# Altium schematic symbol library Transistor.SchLib: 44 symbols
Pins are listed as number, name and electrical type; pins without a type are passive.

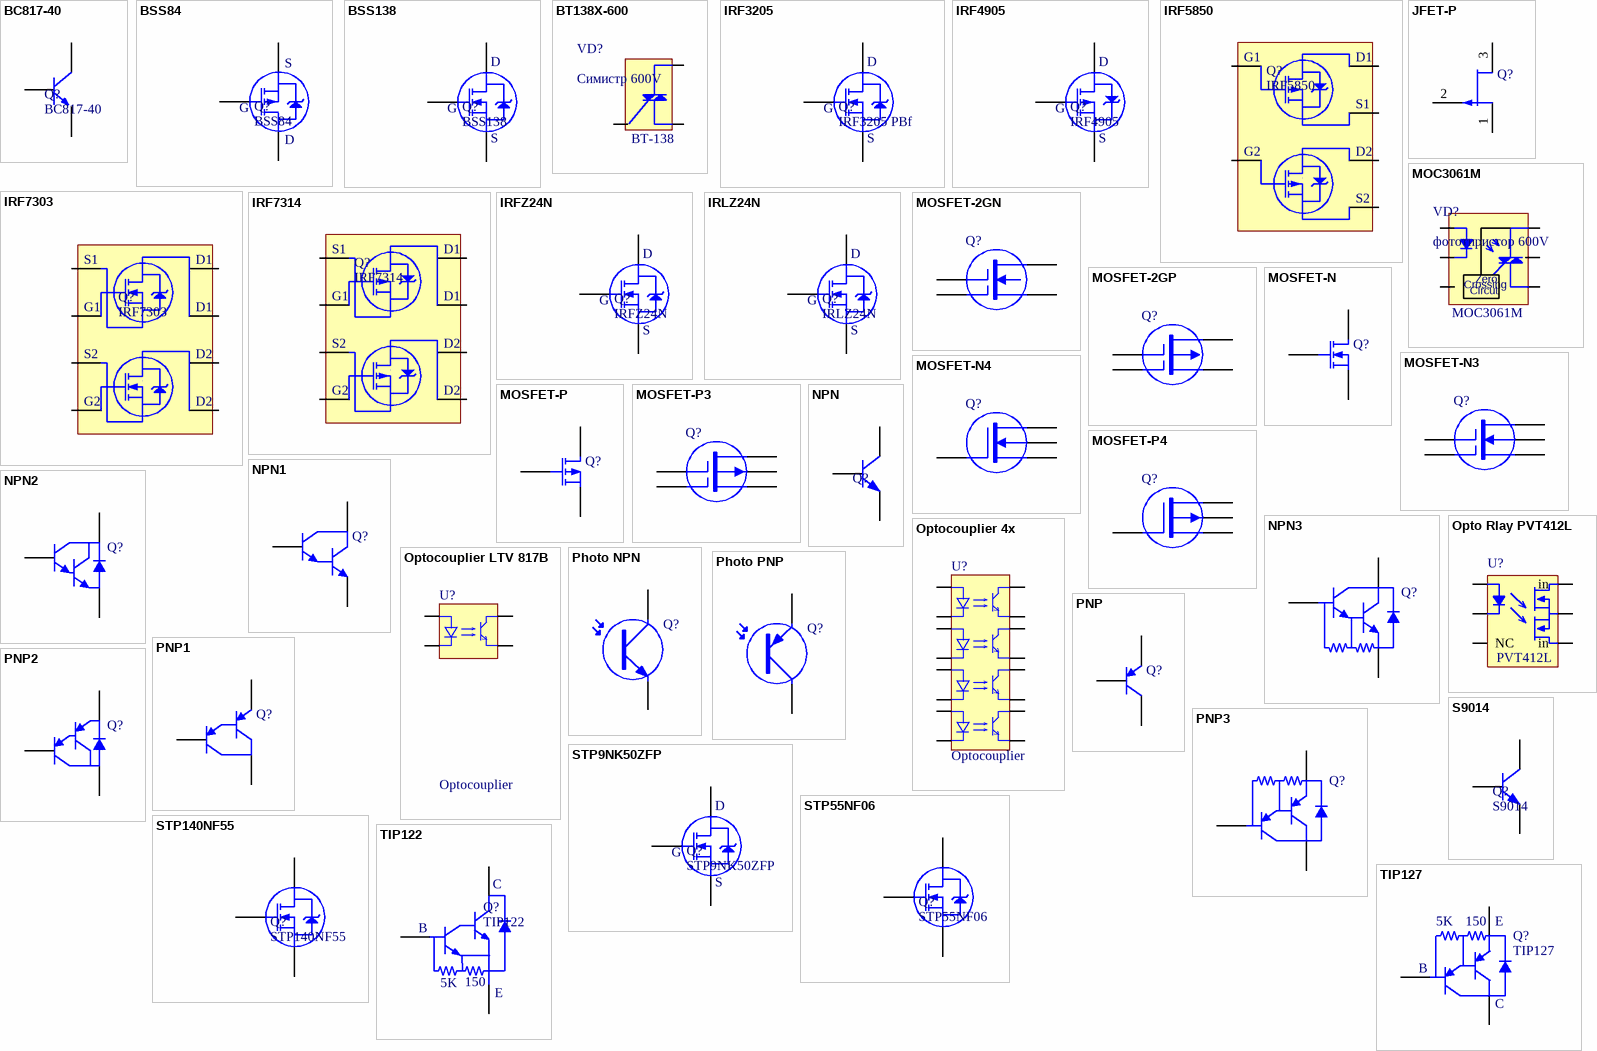
[diagram p0: symbols BC817-40 to TIP127]

## BC817-40
designator Q?
NPN 45 V, 500 mA NPN general-purpose transistor; type: 45 V, 500 mA NPN general-purpose transistors; Name: BC817-40; url: http://lib.chipdip.ru/156/DOC000156781.pdf
footprint SOT-23
pins: 1 B, 2 E, 3 C

## BSS84
designator Q?
P-Channel -50V - 10-1Ω - 0.13A; Monufacturer: Farchild; V DSS (v): 60; RDS: <10Om; Open Voltage: -0.8...-2.0 V; I d - Drain current (continuous) at TC = 25°C: 0.13 A; Name: BSS84; Datasheet: http://tec.org.ru/board/0-0-0-515-20
footprint SOT-23
pins: 1 G, 2 S, 3 D

## BSS138
designator Q?
N-Channel 50V - 0.7-1Ω - 0.22A; Monufacturer: Farchild; V DSS (v): 60; RDS: <6Om; I d - Drain current (continuous) at TC = 100°C: 50 A; I d - Drain current (continuous) at TC = 25°C: 0.22 A; Name: BSS138; Datasheet: http://tec.org.ru/board/0-0-0-511-20
footprint SOT-23
pins: 1 G, 2 S, 3 D

## BT138X-600
designator VD?, comment Симистр 600V
Симистр  600V; Name: MOC3061M; Desc: Включается на прееходе через ноль; I (max): 12 A; U (max): 600V (800V Peak); Cese: TO-220FP; Reverse Voltage: 6 V; I (peak): 95 A (20uS); Lead Solder Temp: 260 C for 10 sec; I Forward: 30 mA; Voltage (Gate): 1.4 Typ; 1.65 Max; Manifacturer: Philips Semiconductors; Время включения: 2ms; Отпирающий ток управления: <35mA; Ток удержания: 60mA; Datasheet: https://static.chipdip.ru/lib/021/DOC001021792.pdf; URL: https://www.chipdip.ru/product/bt138x-600.127; Pins: 1,2 Main Terminal; 3-Gate; URL: http://tec.org.ru/board/bt138x_600_bt138x_800/54-1-0-877; Datasheet: http://tec.org.ru/board/0-0-0-877-20
footprint TO220-2
footprint TO220-2 Horisontal
footprint TO220 L
footprint TO220 L - 20DG
footprint TO220 R - 30dg
footprint TO220 R - thin
footprint TO220 L (dbl pad space)
pins: 1 Main Terminal 2, 2 Main Terminal 1, 3 NC
text: BT-138

## IRF3205
designator Q?, comment IRF3205 PBf
N-Channel 55V - 0.008Ω - 110A; Monufacturer: IOR; RDS Сопротивление Сток-Исток: 0.008 Om; I d - Drain current (continuous) at TC = 100°C: 80 A; VGS Порог Открытия: +2....+4 V; VGS Макс напр на гейте: +-20 V; C ISS Входная емкость: 3247 pF; C OSS Выходная емкость: 781 pF; V DSS (v): 55V; I d - Drain current (continuous) at TC = 25°C: 110 A; Name: IRF3205 PBf; Datasheet: http://tec.org.ru/_bd/2/223_IRF3205.pdf; URL: http://tec.org.ru/board/49-1-0-223
footprint TO220-2
footprint TO220-2 Horisontal
footprint TO220-2 HighPower
pins: 1 G, 2 D, 3 S

## IRF4905
designator Q?
P-Channel 55V - 0.02Ω - 74A; Monufacturer: IOR; RDS Сопротивление Сток-Исток: 0.02 Om; I d - Drain current (continuous) at TC = 100°C: 55 A; VGS Порог Открытия: -2....-4 V; VGS Макс напр на гейте: +-20 V; C ISS Входная емкость: 3400 pF; C OSS Выходная емкость: 1400 pF; V DSS (v): 55V; I d - Drain current (continuous) at TC = 25°C: 74 A; Name: IRF4905; Datasheet: http://tec.org.ru/_bd/32/3287_IRF4905.pdf; URL: http://tec.org.ru/board/irf4905/49-1-0-3287
footprint TO220-2
footprint TO220-2 Horisontal
pins: 1 G, 2 D, 3 S

## IRF5850
designator Q?
Dual P-Ch  20V - 0.135Ω - 2.2A; Monufacturer: IOR; V DSS (v): -20 V; RDS Сопротивление Сток-Исток: 0.135 Om; I d - Drain current (continuous) at TC = 70°C: 1.8 A; VGS Порог Открытия: -0.45...-1.2 V; VGS Макс напр на гейте: +-12 V; C ISS Входная емкость: 320 pF; C OSS Выходная емкость: 56 pF; I d - Drain current (continuous) at TC = 25°C: 2.2 A; Name: IRF5850; Datasheet: http://tec.org.ru/_bd/4/490_IRF5850.pdf; URL: http://tec.org.ru/board/irf5850/49-1-0-490
footprint TSOP-6
footprint TSOP-6 (M)
footprint TSOP-6 (S)
pins: 1 G1, 2 S2, 3 G2, 4 D2, 5 S1, 6 D1

## IRF7303
designator Q?
Dual N-Ch  30V - 0.05Ω - 4.9A; Manufacturer: Farchild; RDS: <0.05Om; I d - Drain current (continuous) at TC = 70°C: 3.9 A; C In: 520pF; C Out: 180pF; V DSS (v): 30 v; I d - Drain current (continuous) at TC = 25°C: 4.9 A; Name: IRF7303; Datasheet: http://tec.org.ru/board/0-0-0-3164-20
footprint SO8
pins: 1 S, 2 G, 3 S, 4 G, 5 D, 6 D, 7 D, 8 D
text: S1; D1; G1; S2; D2; G2

## IRF7314
designator Q?
Dual P-Ch  20V - 0.058Ω - 5.3A; Monufacturer: IOR; RDS Сопротивление Сток-Исток: 0.058 Om; I d - Drain current (continuous) at TC = 100°C: 4.3 A; VGS Порог Открытия: -0.7 V; VGS Макс напр на гейте: +-12 V; C ISS Входная емкость: 780 pF; C OSS Выходная емкость: 470 pF; V DSS (v): 20V; I d - Drain current (continuous) at TC = 25°C: 5.3 A; Name: IRF7314; Datasheet: http://tec.org.ru/_bd/2/277_IRF7314-IR.pdf; URL: http://tec.org.ru/board/49-1-0-277
footprint SO8
pins: 1 S, 2 G, 3 S, 4 G, 5 D, 6 D, 7 D, 8 D
text: S1; D1; G1; S2; D2; G2

## IRFZ24N
designator Q?
N-Channel 55V - 0.07Ω - 17A; Monufacturer: IOR; RDS Сопротивление Сток-Исток: 0.07 Om; I d - Drain current (continuous) at TC = 100°C: 12 A; VGS Порог Открытия: +2....+4 V; VGS Макс напр на гейте: +-20 V; C ISS Входная емкость: 370 pF; C OSS Выходная емкость: 140 pF; V DSS (v): 55V; I d - Drain current (continuous) at TC = 25°C: 17 A; Name: IRFZ24N; Datasheet: http://tec.org.ru/_bd/11/1130_IRFZ24N.pdf; URL: http://tec.org.ru/board/irfz24n/49-1-0-1130
footprint TO220-2
footprint TO220-2 Horisontal
pins: 1 G, 2 D, 3 S

## IRLZ24N
designator Q?
N-Channel 55V - 0.06Ω - 18A; Monufacturer: IOR; RDS Сопротивление Сток-Исток: 0.06 Om; I d - Drain current (continuous) at TC = 100°C: 13 A; VGS Порог Открытия: +1....+2 V; VGS Макс напр на гейте: +-16 V; C ISS Входная емкость: 480 pF; C OSS Выходная емкость: 130 pF; V DSS (v): 55V; I d - Drain current (continuous) at TC = 25°C: 18 A; Name: IRLZ24N; Datasheet: http://tec.org.ru/_bd/11/1129_IRLZ24N.pdf; URL: http://tec.org.ru/board/irlz24n/49-1-0-1129
footprint TO220-2
footprint TO220-2 Horisontal
pins: 1 G, 2 D, 3 S

## JFET-P
designator Q?
P-Channel JFET; Published: 8-Jun-2000; LatestRevisionDate: 17-Jul-2002; LatestRevisionNote: Re-released for DXP Platform.; PackageReference: TO-18A; Publisher: Altium Limited; PackageDescription: SC-89; 3 Flat Leads; Body 1.6 x 1.6 x 0.7 mm, inc leads (LxWxH typ)
pins: 1 D, 2 G, 3 S

## MOC3061M
designator VD?, comment фототиристор 600V
фототиристор 600V, вкл на передеже через ноль; Name: MOC3061M; Desc: Включается на прееходе через ноль; I (max): 60mA; Cese: DIP-6; Reverse Voltage: 6 V; I (peak): 1 A (100uS, 120pps); Lead Solder Temp: 260 C for 10 sec; I Forward: 30 mA; Voltage: 1.3 Typ; 1.5 Max; Led IF (mA) Ток светодиода: 15mA (3061); 10mA (3062); 5mA (3063); Datasheet: https://static.chipdip.ru/lib/224/DOC000224628.pdf; URL: https://www.chipdip.ru/product/moc3061m; Pins: 1-Anode; 2-Cathode; 3,5-NC; 4,6-MAN Term; U (max): 600V
footprint DIP-6 (DIP; 6 Leads; Row Spacing 7.62 mm; Pitch 2.54 mm)
pins: 1, 2, 3 NC, 4 Main Term, 5 NC, 6 Main Term
text: Zero; Crossing; Circut

## MOSFET-2GN
designator Q?
Two-Gate, N-Channel MOSFET; Published: 24-Mar-1999; LatestRevisionDate: 17-Jul-2002; LatestRevisionNote: Re-released for DXP Platform.; PackageReference: T05A; Publisher: Altium Limited; PackageDescription: TO-220, Molded, 5 Lead, Straight; Code_JEDEC: TS-001-AA
pins: 1 G1, 2 G2, 3 D, 4 S

## MOSFET-2GP
designator Q?
Two-Gate, P-Channel MOSFET; Published: 24-Mar-1999; LatestRevisionDate: 29-May-2009; LatestRevisionNote: IPC-7351 Footprint Added.; PackageVersion: Sep-2000; PackageReference: SOT-143; Publisher: Altium Limited; PackageDescription: 4-Pin SOT-143 Package 1.9 mm Pitch, 2.5 mm Lead Span; Code_JEDEC: TO-253-AA; Code_IPC: SOT143
pins: 1 G1, 2 G2, 3 D, 4 S

## MOSFET-N
designator Q?
N-Channel MOSFET; Published: 8-Jun-2000; LatestRevisionDate: 17-Jul-2002; LatestRevisionNote: Re-released for DXP Platform.; PackageVersion: 1995/1996; PackageReference: E3; Publisher: Altium Limited; PackageDescription: TO, Flat Index; 3 In-Line, Axial Leads; Body Dia. 4.6mm; Lead Dia. 0.5 mm (max)
pins: 1 D, 2 G, 3 S

## MOSFET-N3
designator Q?
Two-Gate, N-Channel MOSFET, Externally Terminated Substrate; Published: 24-Mar-1999; LatestRevisionDate: 17-Jul-2002; LatestRevisionNote: Re-released for DXP Platform.; PackageReference: T05A; Publisher: Altium Limited; PackageDescription: TO-220, Molded, 5 Lead, Straight; Code_JEDEC: TS-001-AA
pins: 1 G1, 2 G2, 3 D, 4 U, 5 S

## MOSFET-N4
designator Q?
N-Channel MOSFET, Externally Terminated Substrate; Published: 24-Mar-1999; LatestRevisionDate: 29-May-2009; LatestRevisionNote: IPC-7351 Footprint Added.; PackageVersion: Sep-2000; PackageReference: SOT-343; Publisher: Altium Limited; PackageDescription: 4-Pin SOT-343 Package 1.3 mm Pitch, 2.1 mm Lead Span
pins: 1 G, 2 D, 3 U, 4 S

## MOSFET-P
designator Q?
P-Channel MOSFET; Published: 8-Jun-2000; LatestRevisionDate: 17-Jul-2002; LatestRevisionNote: Re-released for DXP Platform.; PackageVersion: 1995/1996; PackageReference: E3; Publisher: Altium Limited; PackageDescription: TO, Flat Index; 3 In-Line, Axial Leads; Body Dia. 4.6mm; Lead Dia. 0.5 mm (max)
pins: 1 D, 2 G, 3 S

## MOSFET-P3
designator Q?
Two-Gate, P-Channel MOSFET, Externally Terminated Substrate; Published: 24-Mar-1999; LatestRevisionDate: 17-Jul-2002; LatestRevisionNote: Re-released for DXP Platform.; PackageReference: T05B; Publisher: Altium Limited; PackageDescription: TO, Thru-Hole, Vertical, Heatsink Mounted; 5 Bent Staggered Leads; Pitch 1.7 mm
pins: 1 G1, 2 G2, 3 D, 4 U, 5 S

## MOSFET-P4
designator Q?
P-Channel MOSFET, Externally Terminated Substrate; Published: 24-Mar-1999; LatestRevisionDate: 29-May-2009; LatestRevisionNote: IPC-7351 Footprint Added.; PackageVersion: 2002; PackageReference: SOT223; Publisher: Altium Limited; PackageDescription: 4-Pin SOT-223 Package 2.3 mm Pitch, 7 mm Lead Span; Code_JEITA: SC-75; Code_JEDEC: TO-261-AA-B; Code_IPC: SOT223-4
pins: 1 G, 2 D, 3 U, 4 S

## NPN
designator Q?
NPN Bipolar Transistor; Published: 8-Jun-2000; LatestRevisionDate: 17-Jul-2002; LatestRevisionNote: Re-released for DXP Platform.; PackageReference: TO-226-AA; Publisher: Altium Limited; PackageDescription: TO, Flat Index; 3 In-Line, Axial Leads; Body Dia. 4.8mm; Leads 0.55 x 0.51 mm (max); Code_JEDEC: TO-226-AA
footprint TO-92 (EBC) (TO, Flat Index; 3 In-Line, Axial Leads; Body Dia. 4.5mm; Leads 0.51 x 0.48 mm (max))
footprint TO-92 Triangle (EBC) (TO, Flat Index; 3 In-Line, Axial Leads; Body Dia. 4.5mm; Leads 0.51 x 0.48 mm (max))
footprint TO-92 2.54 (EBC) (TO, Flat Index; 3 In-Line, Axial Leads; Body Dia. 4.5mm; Leads 0.51 x 0.48 mm (max))
pins: B, C, E

## NPN1
designator Q?
NPN Darlington Bipolar Transistor; Published: 8-Jun-2000; LatestRevisionDate: 17-Jul-2002; LatestRevisionNote: Re-released for DXP Platform.; DatasheetVersion: 1989; PackageVersion: 1989; PackageReference: TO-92; Publisher: Altium Limited; PackageDescription: TO, Flat Index; 3 In-Line, Axial Leads; Body Dia. 4.6mm; Leads 0.41 x 0.39 mm (max); Code_JEDEC: TO-92
pins: 1 C, 2 B, 3 E

## NPN2
designator Q?
NPN Darlington Bipolar Transistor; Published: 8-Jun-2000; LatestRevisionDate: 17-Jul-2002; LatestRevisionNote: Re-released for DXP Platform.; PackageReference: TO-226-AE; Publisher: Altium Limited; PackageDescription: TO, Flat Index; 3 In-Line, Axial Leads; Body Dia. 4.8mm; Leads 0.55 x 0.51 mm (max); Code_JEDEC: TO-226-AE
pins: 1 C, 2 B, 3 E

## NPN3
designator Q?
NPN Darlington Bipolar Transistor; Published: 8-Jun-2000; LatestRevisionDate: 17-Jul-2002; LatestRevisionNote: Re-released for DXP Platform.; PackageReference: TO-237-AA; Publisher: Altium Limited; PackageDescription: TO, Flat Index; 3 In-Line, Axial Leads; Body Dia. 4.8mm; Lead Dia. 0.56 mm (max); Code_JEDEC: TO-237-AA
pins: 1 C, 2 B, 3 E

## Opto Rlay PVT412L
designator U?, comment PVT412L  (value not drawn)
Opto relay 2 chanel, MOSFET; Datasheet: http://tec.org.ru/board/0-0-0-1979-20; Name: PVT412L; URL: http://tec.org.ru/board/pvt412l/147-1-0-1979
footprint DIP-6 (DIP; 6 Leads; Row Spacing 7.62 mm; Pitch 2.54 mm)
pins: 1, 2, 3 NC, 4 in, 5, 6 in

## Optocouplier 4x
designator U?, comment Optocouplier
4x channel; LTV847 Datasheet: http://lib.chipdip.ru/224/DOC000224974.pdf
3D model DIP16 (PCB3D Model)
footprint DIP16 (DIP; 16 Leads; Row Spacing 7.62 mm; Pitch 2.54 mm)
pins: 1, 2, 3, 4, 5, 6, 7, 8, 9, 10, 11, 12, 13, 14, 15, 16

## Optocouplier LTV 817B
designator U?, comment Optocouplier
Name: LTV817B; LTV817 Datasheet: http://lib.chipdip.ru/222/DOC000222300.pdf
footprint DIP-4
footprint DIP-4 SMD
pins: 1, 2, 3, 4

## Photo NPN
designator Q?
NPN Phototransistor; Published: 24-Mar-1999; LatestRevisionDate: 17-Jul-2002; LatestRevisionNote: Re-released for DXP Platform.; PackageReference: TO-220_A; Publisher: Altium Limited; Code_JEDEC: TO-220-AC
pins: 1 C, 3 E

## Photo PNP
designator Q?
PNP Phototransistor; Published: 24-Mar-1999; LatestRevisionDate: 17-Jul-2002; LatestRevisionNote: Re-released for DXP Platform.; PackageReference: TO-220_A; Publisher: Altium Limited; Code_JEDEC: TO-220-AC
pins: 1 C, 3 E

## PNP
designator Q?
PNP Bipolar Transistor; Published: 8-Jun-2000; LatestRevisionDate: 29-May-2009; LatestRevisionNote: IPC-7351 Footprint Added.; PackageVersion: Aug-1999; PackageReference: SOT-23B; Publisher: Altium Limited; PackageDescription: 3-Pin SOT-23 Package 0.95 mm Pitch, 2.4 mm Lead Span
pins: 1 C, 2 B, 3 E

## PNP1
designator Q?
PNP Darlington Bipolar Transistor; Published: 8-Jun-2000; LatestRevisionDate: 17-Jul-2002; LatestRevisionNote: Re-released for DXP Platform.; DatasheetVersion: May-1994; PackageVersion: 1995/1996; PackageReference: E3; Publisher: Altium Limited; PackageDescription: TO, Flat Index; 3 In-Line, Axial Leads; Body Dia. 4.6mm; Lead Dia. 0.5 mm (max); ComponentLink1Description: Manufacturer Link; ComponentLink1URL: http://www.zetex.com/
pins: 1 E, 2 B, 3 C

## PNP2
designator Q?
PNP Darlington Bipolar Transistor; Published: 8-Jun-2000; LatestRevisionDate: 17-Jul-2002; LatestRevisionNote: Re-released for DXP Platform.; PackageReference: TO-226-AE; Publisher: Altium Limited; PackageDescription: TO, Flat Index; 3 In-Line, Axial Leads; Body Dia. 4.8mm; Leads 0.55 x 0.51 mm (max); Code_JEDEC: TO-226-AA
pins: 1 C, 2 B, 3 E

## PNP3
designator Q?
PNP Darlington Bipolar Transistor; Published: 8-Jun-2000; LatestRevisionDate: 17-Jul-2002; LatestRevisionNote: Re-released for DXP Platform.; PackageReference: TO-226-AE; Publisher: Altium Limited; PackageDescription: TO, Flat Index; 3 In-Line, Axial Leads; Body Dia. 4.8mm; Leads 0.55 x 0.51 mm (max); Code_JEDEC: TO-226-AE
pins: 1 C, 2 B, 3 E

## S9014
designator Q?
NPN Bipolar Transistor; Published: 8-Jun-2000; LatestRevisionNote: Re-released for DXP Platform.; PackageReference: TO-226-AA; Publisher: Altium Limited; PackageDescription: TO, Flat Index; 3 In-Line, Axial Leads; Body Dia. 4.8mm; Leads 0.55 x 0.51 mm (max)
footprint TO-92 (EBC) (TO, Flat Index; 3 In-Line, Axial Leads; Body Dia. 4.5mm; Leads 0.51 x 0.48 mm (max))
footprint TO-92 Triangle (EBC) (TO, Flat Index; 3 In-Line, Axial Leads; Body Dia. 4.5mm; Leads 0.51 x 0.48 mm (max))
footprint TO-92 2.54 (EBC) (TO, Flat Index; 3 In-Line, Axial Leads; Body Dia. 4.5mm; Leads 0.51 x 0.48 mm (max))
pins: B, C, E

## STP9NK50ZFP
designator Q?
N-Channel 400V - 0.85Ω - 7.2A; Manufacturer: ST; RDS Сопротивление Сток-Исток: <0,85 om; I d - Drain current (continuous) at TC = 100°C: 4.5 A; VGS Порог Открытия: +3....+4.5 V; VGS Макс напр на гейте: +-20 V; C ISS Входная емкость: 910 pF; C OSS Выходная емкость: 125 pF; V DSS (v): 400V; I d - Drain current (continuous) at TC = 25°C: 7.2 A; Name: STP9NK50ZFP; Datasheet: http://tec.org.ru/board/0-0-0-3855-20; URL: http://tec.org.ru/board/stp9nk50zfp/49-1-0-3855
footprint TO220-2
footprint TO220-2 Horisontal
pins: 1 G, 2 D, 3 S

## STP55NF06
designator Q?
N-Channel 60V - 0.018Ω - 50A - D2PAK - I2PAK; Monufacturer: STP; V DSS (v): 60; RDS: <0.018Om; I d - Drain current (continuous) at TC = 25°C: 50 A; I d - Drain current (continuous) at TC = 100°C: 50 A; Name: STP55NF06
footprint TO220-2 Horisontal
footprint TO220-2
pins: 1 G, 2 D, 3 S

## STP140NF55
designator Q?
N-Channel 55V - 0.0065Ω - 80A - D2PAK - I2PAK; Monufacturer: STP; V DS (v): 55; V gs (+-V): 20; I d - Drain current (continuous) at TC = 25°C: 80 A; I d - Drain current (continuous) at TC = 100°C: 80 A; Name: STP140NF55
footprint TO220-2 Horisontal
footprint TO220-2
pins: 1 G, 2 D, 3 S

## TIP122
designator Q?
NPN Darlington 5A, 65W, 100V, h>1000; I imp: 8A; h21e: >1000; Code_JEDEC: TO-220; U max: 100V; I max: 5A; P max: 65W; Channnel: NPN
footprint TO220-2
footprint TO220-2 Horisontal
pins: 1 B, 2 C, 3 E
text: 5K; 150

## TIP127
designator Q?
PNP Darlington Bipolar Transistor; U max: 100V; I max: 5A; I imp: 8A; h21e: >1000; P max: 65W; Code_JEDEC: TO-220; Channnel: PNP
footprint TO220-2
footprint TO220-2 Horisontal
pins: 1 B, 2 C, 3 E
text: 5K; 150

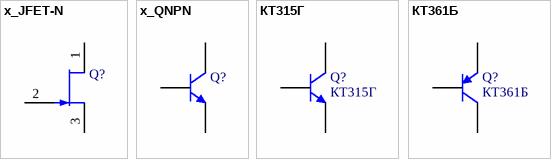
[diagram p1: symbols x_JFET-N to КТ361Б]

## x_JFET-N
designator Q?
N-Channel JFET; Published: 8-Jun-2000; LatestRevisionDate: 17-Jul-2002; LatestRevisionNote: Re-released for DXP Platform.; PackageReference: TO-254-AA; Publisher: Altium Limited; Code_JEDEC: TO-254-AA
pins: 1 D, 2 G, 3 S

## x_QNPN
designator Q?
NPN Bipolar Transistor; Published: 8-Jun-2000; LatestRevisionDate: 29-May-2009; LatestRevisionNote: IPC-7351 Footprint Added.; PackageVersion: Aug-1999; PackageReference: SOT-23B; Publisher: Altium Limited; PackageDescription: 3-Pin SOT-23 Package 0.95 mm Pitch, 2.4 mm Lead Span
pins: 1 C, 2 B, 3 E

## КТ315Г
designator Q?
NPN Bipolar Transistor; Name: КТ315Г
footprint КТ315
pins: 1 C, 2 B, 3 E

## КТ361Б
designator Q?
PNP Bipolar Transistor; Name: КТ361Б
footprint КТ315
pins: 1 C, 2 B, 3 E